# Altium integrated library TI Amplifiers and Linear Operational Amplifier Precision Amplifier Part One.IntLib: 2299 symbols (part 1 of 85)
Pins are listed as number, name and electrical type; pins without a type are passive.

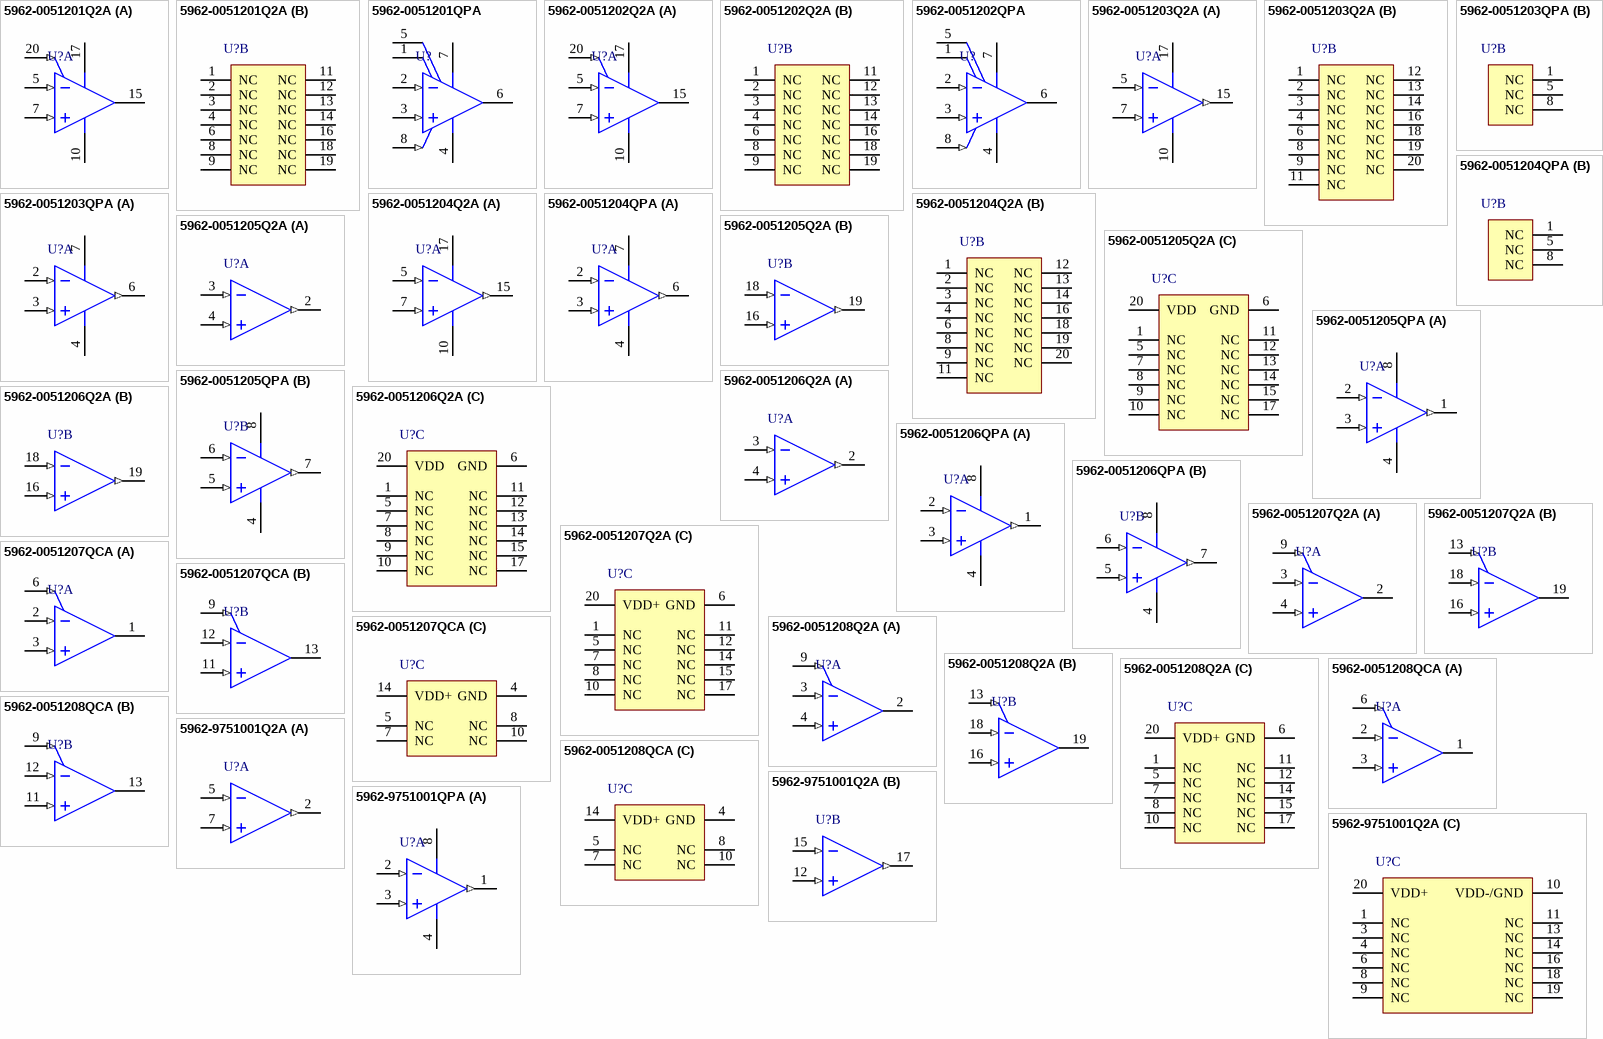
[diagram p0: symbols 5962-0051201Q2A to 5962-9751001QPA]

## 5962-0051201Q2A
designator U?
Single, Low Power, Rail-to-Rail Input / Output Operational Amplifier with Shutdown, 2.7 to 6 V, -55 to 125 degC, 20-pin LCC (FK20); Manufacturer: Texas Instruments; PartNumber: 5962-0051201Q2A; CMRR(Min)(dB): 66; IIB(Max)(pA): 14000; Iq per channel(Max)(mA): 0.575; Number of Channels: 1; Offset Drift(Typ)(uV/C): 2; Slew Rate(Typ)(V/us): 1.6; Sub Family: High Output Current Amplifier (>=50mA), Low Supply Voltage Amplifier (<=2.7V), Precision Amplifier; Total Supply Voltage(Max)(+5V is 5, +/-5V is 10): 6; Total Supply Voltage(Min)(+5V is 5, +/-5V is 10): 2.7; Vn at 1kHz(Typ)(nV/rtHz): 11; DatasheetVersion: SLOS220J; PackageVersion: 4040140/D, 01/2011; PackageReference: FK20; PackageDescription: 20-Pin Ceramic, Metal Chip Carrier, Body 8.89 x 8.89 mm, Pitch 1.27 mm; Vio (25C)(Max)(mV): 2; Mounting Technology: Surface Mount; Code_JEDEC: MS-004; ComponentLink1Description: Manufacturer URL; ComponentLink1URL: http://www.ti.com/; ComponentLink2Description: Datasheet; ComponentLink2URL: http://www.ti.com/general/docs/lit/getliterature.tsp?genericPartNumber=TLV2460M&fileType=pdf; ComponentLink3Description: Package Specification; ComponentLink3URL: http://www.ti.com/litv/pdf/mlcc006d
footprint TI-FK20_N (Leadless Chip Carrier, 20-Leads, Body 8.9x8.9mm, Pitch 1.27mm, IPC Medium Density)
footprint TI-FK20_L (Leadless Chip Carrier, 20-Leads, Body 8.9x8.9mm, Pitch 1.27mm, IPC High Density)
footprint TI-FK20_M (Leadless Chip Carrier, 20-Leads, Body 8.9x8.9mm, Pitch 1.27mm, IPC Low Density)
part A pins: 5 IN- (in), 7 IN+ (in), 10 GND (power), 15 OUT (hiz), 17 VDD (power), 20 ~{SHDN} (in)
part B pins: 1 NC, 2 NC, 3 NC, 4 NC, 6 NC, 8 NC, 9 NC, 11 NC, 12 NC, 13 NC, 14 NC, 16 NC, 18 NC, 19 NC

## 5962-0051201QPA
designator U?
Single, Low Power, Rail-to-Rail Input / Output Operational Amplifier with Shutdown, 2.7 to 6 V, -55 to 125 degC, 8-pin DIP (JG8); Manufacturer: Texas Instruments; PartNumber: 5962-0051201QPA; CMRR(Min)(dB): 66; IIB(Max)(pA): 14000; Iq per channel(Max)(mA): 0.575; Number of Channels: 1; Offset Drift(Typ)(uV/C): 2; Slew Rate(Typ)(V/us): 1.6; Sub Family: High Output Current Amplifier (>=50mA), Low Supply Voltage Amplifier (<=2.7V), Precision Amplifier; Total Supply Voltage(Max)(+5V is 5, +/-5V is 10): 6; Total Supply Voltage(Min)(+5V is 5, +/-5V is 10): 2.7; Vn at 1kHz(Typ)(nV/rtHz): 11; DatasheetVersion: SLOS220J; PackageVersion: 4040107/C, 08/1996; PackageReference: JG8; PackageDescription: 8-Pin Ceramic, Glass In-Line, Body 9.58 x 6.665 mm, Pitch 2.54 mm; Vio (25C)(Max)(mV): 2; Mounting Technology: Through Hole; ComponentLink1Description: Manufacturer URL; ComponentLink1URL: http://www.ti.com/; ComponentLink2Description: Datasheet; ComponentLink2URL: http://www.ti.com/general/docs/lit/getliterature.tsp?genericPartNumber=TLV2460M&fileType=pdf; ComponentLink3Description: Package Specification; ComponentLink3URL: http://www.ti.com/litv/pdf/mcer001a
footprint TI-JG8 (DIP, 8-Leads, Body 10.15x7.1mm, Pitch 2.54mm)
pins: 1 NC, 2 IN- (in), 3 IN+ (in), 4 GND (power), 5 NC, 6 OUT (hiz), 7 VDD (power), 8 ~{SHDN} (in)

## 5962-0051202Q2A
designator U?
Single, Low Power, Rail-to-Rail Input / Output Operational Amplifier with Shutdown, 2.7 to 6 V, -55 to 125 degC, 20-pin LCC (FK20); Manufacturer: Texas Instruments; PartNumber: 5962-0051202Q2A; CMRR(Min)(dB): 66; IIB(Max)(pA): 14000; Iq per channel(Max)(mA): 0.575; Number of Channels: 1; Offset Drift(Typ)(uV/C): 2; Slew Rate(Typ)(V/us): 1.6; Sub Family: High Output Current Amplifier (>=50mA), Low Supply Voltage Amplifier (<=2.7V), Precision Amplifier; Total Supply Voltage(Max)(+5V is 5, +/-5V is 10): 6; Total Supply Voltage(Min)(+5V is 5, +/-5V is 10): 2.7; Vio (25C)(Max)(mV): 1.5; Vn at 1kHz(Typ)(nV/rtHz): 11; DatasheetVersion: SLOS220J; PackageVersion: 4040140/D, 01/2011; PackageReference: FK20; PackageDescription: 20-Pin Ceramic, Metal Chip Carrier, Body 8.89 x 8.89 mm, Pitch 1.27 mm; Mounting Technology: Surface Mount; Code_JEDEC: MS-004; ComponentLink1Description: Manufacturer URL; ComponentLink1URL: http://www.ti.com/; ComponentLink2Description: Datasheet; ComponentLink2URL: http://www.ti.com/general/docs/lit/getliterature.tsp?genericPartNumber=TLV2460AM&fileType=pdf; ComponentLink3Description: Package Specification; ComponentLink3URL: http://www.ti.com/litv/pdf/mlcc006d
footprint TI-FK20_N (Leadless Chip Carrier, 20-Leads, Body 8.9x8.9mm, Pitch 1.27mm, IPC Medium Density)
footprint TI-FK20_L (Leadless Chip Carrier, 20-Leads, Body 8.9x8.9mm, Pitch 1.27mm, IPC High Density)
footprint TI-FK20_M (Leadless Chip Carrier, 20-Leads, Body 8.9x8.9mm, Pitch 1.27mm, IPC Low Density)
part A pins: 5 IN- (in), 7 IN+ (in), 10 GND (power), 15 OUT (hiz), 17 VDD (power), 20 ~{SHDN} (in)
part B pins: 1 NC, 2 NC, 3 NC, 4 NC, 6 NC, 8 NC, 9 NC, 11 NC, 12 NC, 13 NC, 14 NC, 16 NC, 18 NC, 19 NC

## 5962-0051202QPA
designator U?
Single, Low Power, Rail-to-Rail Input / Output Operational Amplifier with Shutdown, 2.7 to 6 V, -55 to 125 degC, 8-pin DIP (JG8); Manufacturer: Texas Instruments; PartNumber: 5962-0051202QPA; CMRR(Min)(dB): 66; IIB(Max)(pA): 14000; Iq per channel(Max)(mA): 0.575; Number of Channels: 1; Offset Drift(Typ)(uV/C): 2; Slew Rate(Typ)(V/us): 1.6; Sub Family: High Output Current Amplifier (>=50mA), Low Supply Voltage Amplifier (<=2.7V), Precision Amplifier; Total Supply Voltage(Max)(+5V is 5, +/-5V is 10): 6; Total Supply Voltage(Min)(+5V is 5, +/-5V is 10): 2.7; Vio (25C)(Max)(mV): 1.5; Vn at 1kHz(Typ)(nV/rtHz): 11; DatasheetVersion: SLOS220J; PackageVersion: 4040107/C, 08/1996; PackageReference: JG8; PackageDescription: 8-Pin Ceramic, Glass In-Line, Body 9.58 x 6.665 mm, Pitch 2.54 mm; Mounting Technology: Through Hole; ComponentLink1Description: Manufacturer URL; ComponentLink1URL: http://www.ti.com/; ComponentLink2Description: Datasheet; ComponentLink2URL: http://www.ti.com/general/docs/lit/getliterature.tsp?genericPartNumber=TLV2460AM&fileType=pdf; ComponentLink3Description: Package Specification; ComponentLink3URL: http://www.ti.com/litv/pdf/mcer001a
footprint TI-JG8 (DIP, 8-Leads, Body 10.15x7.1mm, Pitch 2.54mm)
pins: 1 NC, 2 IN- (in), 3 IN+ (in), 4 GND (power), 5 NC, 6 OUT (hiz), 7 VDD (power), 8 ~{SHDN} (in)

## 5962-0051203Q2A
designator U?
Single, Low Power, Rail-to-Rail Input / Output Operational Amplifier, 2.7 to 6 V, -55 to 125 degC, 20-pin LCC (FK20); Manufacturer: Texas Instruments; PartNumber: 5962-0051203Q2A; CMRR(Min)(dB): 66; IIB(Max)(pA): 14000; Iq per channel(Max)(mA): 0.575; Number of Channels: 1; Offset Drift(Typ)(uV/C): 2; Slew Rate(Typ)(V/us): 1.6; Sub Family: High Output Current Amplifier (>=50mA), Low Supply Voltage Amplifier (<=2.7V), Precision Amplifier; Total Supply Voltage(Max)(+5V is 5, +/-5V is 10): 6; Total Supply Voltage(Min)(+5V is 5, +/-5V is 10): 2.7; Vn at 1kHz(Typ)(nV/rtHz): 11; DatasheetVersion: SLOS220J; PackageVersion: 4040140/D, 01/2011; PackageReference: FK20; PackageDescription: 20-Pin Ceramic, Metal Chip Carrier, Body 8.89 x 8.89 mm, Pitch 1.27 mm; Vio (25C)(Max)(mV): 2; Mounting Technology: Surface Mount; Code_JEDEC: MS-004; ComponentLink1Description: Manufacturer URL; ComponentLink1URL: http://www.ti.com/; ComponentLink2Description: Datasheet; ComponentLink2URL: http://www.ti.com/general/docs/lit/getliterature.tsp?genericPartNumber=TLV2461M&fileType=pdf; ComponentLink3Description: Package Specification; ComponentLink3URL: http://www.ti.com/litv/pdf/mlcc006d
footprint TI-FK20_N (Leadless Chip Carrier, 20-Leads, Body 8.9x8.9mm, Pitch 1.27mm, IPC Medium Density)
footprint TI-FK20_L (Leadless Chip Carrier, 20-Leads, Body 8.9x8.9mm, Pitch 1.27mm, IPC High Density)
footprint TI-FK20_M (Leadless Chip Carrier, 20-Leads, Body 8.9x8.9mm, Pitch 1.27mm, IPC Low Density)
part A pins: 5 IN- (in), 7 IN+ (in), 10 GND (power), 15 OUT (out), 17 VDD (power)
part B pins: 1 NC, 2 NC, 3 NC, 4 NC, 6 NC, 8 NC, 9 NC, 11 NC, 12 NC, 13 NC, 14 NC, 16 NC, 18 NC, 19 NC, 20 NC

## 5962-0051203QPA
designator U?
Single, Low Power, Rail-to-Rail Input / Output Operational Amplifier, 2.7 to 6 V, -55 to 125 degC, 8-pin DIP (JG8); Manufacturer: Texas Instruments; PartNumber: 5962-0051203QPA; CMRR(Min)(dB): 66; IIB(Max)(pA): 14000; Iq per channel(Max)(mA): 0.575; Number of Channels: 1; Offset Drift(Typ)(uV/C): 2; Slew Rate(Typ)(V/us): 1.6; Sub Family: High Output Current Amplifier (>=50mA), Low Supply Voltage Amplifier (<=2.7V), Precision Amplifier; Total Supply Voltage(Max)(+5V is 5, +/-5V is 10): 6; Total Supply Voltage(Min)(+5V is 5, +/-5V is 10): 2.7; Vn at 1kHz(Typ)(nV/rtHz): 11; DatasheetVersion: SLOS220J; PackageVersion: 4040107/C, 08/1996; PackageReference: JG8; PackageDescription: 8-Pin Ceramic, Glass In-Line, Body 9.58 x 6.665 mm, Pitch 2.54 mm; Vio (25C)(Max)(mV): 2; Mounting Technology: Through Hole; ComponentLink1Description: Manufacturer URL; ComponentLink1URL: http://www.ti.com/; ComponentLink2Description: Datasheet; ComponentLink2URL: http://www.ti.com/general/docs/lit/getliterature.tsp?genericPartNumber=TLV2461M&fileType=pdf; ComponentLink3Description: Package Specification; ComponentLink3URL: http://www.ti.com/litv/pdf/mcer001a
footprint TI-JG8 (DIP, 8-Leads, Body 10.15x7.1mm, Pitch 2.54mm)
part A pins: 2 IN- (in), 3 IN+ (in), 4 GND (power), 6 OUT (out), 7 VDD+ (power)
part B pins: 1 NC, 5 NC, 8 NC

## 5962-0051204Q2A
designator U?
Single, Low Power, Rail-to-Rail Input / Output Operational Amplifier, 2.7 to 6 V, -55 to 125 degC, 20-pin LCC (FK20); Manufacturer: Texas Instruments; PartNumber: 5962-0051204Q2A; CMRR(Min)(dB): 66; IIB(Max)(pA): 14000; Iq per channel(Max)(mA): 0.575; Number of Channels: 1; Offset Drift(Typ)(uV/C): 2; Slew Rate(Typ)(V/us): 1.6; Sub Family: High Output Current Amplifier (>=50mA), Low Supply Voltage Amplifier (<=2.7V), Precision Amplifier; Total Supply Voltage(Max)(+5V is 5, +/-5V is 10): 6; Total Supply Voltage(Min)(+5V is 5, +/-5V is 10): 2.7; Vio (25C)(Max)(mV): 1.5; Vn at 1kHz(Typ)(nV/rtHz): 11; DatasheetVersion: SLOS220J; PackageVersion: 4040140/D, 01/2011; PackageReference: FK20; PackageDescription: 20-Pin Ceramic, Metal Chip Carrier, Body 8.89 x 8.89 mm, Pitch 1.27 mm; Mounting Technology: Surface Mount; Code_JEDEC: MS-004; ComponentLink1Description: Manufacturer URL; ComponentLink1URL: http://www.ti.com/; ComponentLink2Description: Datasheet; ComponentLink2URL: http://www.ti.com/general/docs/lit/getliterature.tsp?genericPartNumber=TLV2461AM&fileType=pdf; ComponentLink3Description: Package Specification; ComponentLink3URL: http://www.ti.com/litv/pdf/mlcc006d
footprint TI-FK20_N (Leadless Chip Carrier, 20-Leads, Body 8.9x8.9mm, Pitch 1.27mm, IPC Medium Density)
footprint TI-FK20_L (Leadless Chip Carrier, 20-Leads, Body 8.9x8.9mm, Pitch 1.27mm, IPC High Density)
footprint TI-FK20_M (Leadless Chip Carrier, 20-Leads, Body 8.9x8.9mm, Pitch 1.27mm, IPC Low Density)
part A pins: 5 IN- (in), 7 IN+ (in), 10 GND (power), 15 OUT (out), 17 VDD (power)
part B pins: 1 NC, 2 NC, 3 NC, 4 NC, 6 NC, 8 NC, 9 NC, 11 NC, 12 NC, 13 NC, 14 NC, 16 NC, 18 NC, 19 NC, 20 NC

## 5962-0051204QPA
designator U?
Single, Low Power, Rail-to-Rail Input / Output Operational Amplifier, 2.7 to 6 V, -55 to 125 degC, 8-pin DIP (JG8); Manufacturer: Texas Instruments; PartNumber: 5962-0051204QPA; CMRR(Min)(dB): 66; IIB(Max)(pA): 14000; Iq per channel(Max)(mA): 0.575; Number of Channels: 1; Offset Drift(Typ)(uV/C): 2; Slew Rate(Typ)(V/us): 1.6; Sub Family: High Output Current Amplifier (>=50mA), Low Supply Voltage Amplifier (<=2.7V), Precision Amplifier; Total Supply Voltage(Max)(+5V is 5, +/-5V is 10): 6; Total Supply Voltage(Min)(+5V is 5, +/-5V is 10): 2.7; Vio (25C)(Max)(mV): 1.5; Vn at 1kHz(Typ)(nV/rtHz): 11; DatasheetVersion: SLOS220J; PackageVersion: 4040107/C, 08/1996; PackageReference: JG8; PackageDescription: 8-Pin Ceramic, Glass In-Line, Body 9.58 x 6.665 mm, Pitch 2.54 mm; Mounting Technology: Through Hole; ComponentLink1Description: Manufacturer URL; ComponentLink1URL: http://www.ti.com/; ComponentLink2Description: Datasheet; ComponentLink2URL: http://www.ti.com/general/docs/lit/getliterature.tsp?genericPartNumber=TLV2461AM&fileType=pdf; ComponentLink3Description: Package Specification; ComponentLink3URL: http://www.ti.com/litv/pdf/mcer001a
footprint TI-JG8 (DIP, 8-Leads, Body 10.15x7.1mm, Pitch 2.54mm)
part A pins: 2 IN- (in), 3 IN+ (in), 4 GND (power), 6 OUT (out), 7 VDD+ (power)
part B pins: 1 NC, 5 NC, 8 NC

## 5962-0051205Q2A
designator U?
Dual Low-Power, Rail-to-Rail Input / Output Operational Amplifier with Shutdown, 2.7 to 6 V, -55 to 125 degC, 20-pin LCC (FK20); Manufacturer: Texas Instruments; PartNumber: 5962-0051205Q2A; CMRR(Min)(dB): 66; IIB(Max)(pA): 14000; Iq per channel(Max)(mA): 0.575; Number of Channels: 2; Slew Rate(Typ)(V/us): 1.6; Sub Family: High Output Current Amplifier (>=50mA), Low Supply Voltage Amplifier (<=2.7V), Precision Amplifier; Total Supply Voltage(Max)(+5V is 5, +/-5V is 10): 6; Total Supply Voltage(Min)(+5V is 5, +/-5V is 10): 2.7; Vn at 1kHz(Typ)(nV/rtHz): 11; DatasheetVersion: SLOS220J; PackageVersion: 4040140/D, 01/2011; PackageReference: FK20; PackageDescription: 20-Pin Ceramic, Metal Chip Carrier, Body 8.89 x 8.89 mm, Pitch 1.27 mm; Offset Drift(Typ)(uV/C): 2; Vio (25C)(Max)(mV): 2; Mounting Technology: Surface Mount; Code_JEDEC: MS-004; ComponentLink1Description: Manufacturer URL; ComponentLink1URL: http://www.ti.com/; ComponentLink2Description: Datasheet; ComponentLink2URL: http://www.ti.com/general/docs/lit/getliterature.tsp?genericPartNumber=TLV2462M&fileType=pdf; ComponentLink3Description: Package Specification; ComponentLink3URL: http://www.ti.com/litv/pdf/mlcc006d
footprint TI-FK20_N (Leadless Chip Carrier, 20-Leads, Body 8.9x8.9mm, Pitch 1.27mm, IPC Medium Density)
footprint TI-FK20_L (Leadless Chip Carrier, 20-Leads, Body 8.9x8.9mm, Pitch 1.27mm, IPC High Density)
footprint TI-FK20_M (Leadless Chip Carrier, 20-Leads, Body 8.9x8.9mm, Pitch 1.27mm, IPC Low Density)
part A pins: 2 OUT1 (out), 3 IN1- (in), 4 IN1+ (in)
part B pins: 16 IN2+ (in), 18 IN2- (in), 19 OUT2 (out)
part C pins: 1 NC, 5 NC, 6 GND (power), 7 NC, 8 NC, 9 NC, 10 NC, 11 NC, 12 NC, 13 NC, 14 NC, 15 NC, 17 NC, 20 VDD (power)

## 5962-0051205QPA
designator U?
Dual Low-Power, Rail-to-Rail Input / Output Operational Amplifier with Shutdown, 2.7 to 6 V, -55 to 125 degC, 8-pin DIP (JG8); Manufacturer: Texas Instruments; PartNumber: 5962-0051205QPA; CMRR(Min)(dB): 66; IIB(Max)(pA): 14000; Iq per channel(Max)(mA): 0.575; Number of Channels: 2; Slew Rate(Typ)(V/us): 1.6; Sub Family: High Output Current Amplifier (>=50mA), Low Supply Voltage Amplifier (<=2.7V), Precision Amplifier; Total Supply Voltage(Max)(+5V is 5, +/-5V is 10): 6; Total Supply Voltage(Min)(+5V is 5, +/-5V is 10): 2.7; Vn at 1kHz(Typ)(nV/rtHz): 11; DatasheetVersion: SLOS220J; PackageVersion: 4040107/C, 08/1996; PackageReference: JG8; PackageDescription: 8-Pin Ceramic, Glass In-Line, Body 9.58 x 6.665 mm, Pitch 2.54 mm; Offset Drift(Typ)(uV/C): 2; Vio (25C)(Max)(mV): 2; Mounting Technology: Through Hole; ComponentLink1Description: Manufacturer URL; ComponentLink1URL: http://www.ti.com/; ComponentLink2Description: Datasheet; ComponentLink2URL: http://www.ti.com/general/docs/lit/getliterature.tsp?genericPartNumber=TLV2462M&fileType=pdf; ComponentLink3Description: Package Specification; ComponentLink3URL: http://www.ti.com/litv/pdf/mcer001a
footprint TI-JG8 (DIP, 8-Leads, Body 10.15x7.1mm, Pitch 2.54mm)
pins on every part: 4 GND (power), 8 VDD+ (power)
part A pins: 1 OUT1 (out), 2 IN1- (in), 3 IN1+ (in)
part B pins: 5 IN2+ (in), 6 IN2- (in), 7 OUT2 (out)

## 5962-0051206Q2A
designator U?
Dual Low-Power, Rail-to-Rail Input / Output Operational Amplifier, 2.7 to 6 V, -55 to 125 degC, 20-pin LCC (FK20); Manufacturer: Texas Instruments; PartNumber: 5962-0051206Q2A; CMRR(Min)(dB): 60; IIB(Max)(pA): 14000; Iq per channel(Max)(mA): 0.575; Number of Channels: 2; Slew Rate(Typ)(V/us): 1.6; Sub Family: High Output Current Amplifier (>=50mA), Low Supply Voltage Amplifier (<=2.7V), Precision Amplifier; Total Supply Voltage(Max)(+5V is 5, +/-5V is 10): 6; Total Supply Voltage(Min)(+5V is 5, +/-5V is 10): 2.7; Vio (25C)(Max)(mV): 1.5; Vn at 1kHz(Typ)(nV/rtHz): 11; DatasheetVersion: SLOS220J; PackageVersion: 4040140/D, 01/2011; PackageReference: FK20; PackageDescription: 20-Pin Ceramic, Metal Chip Carrier, Body 8.89 x 8.89 mm, Pitch 1.27 mm; Offset Drift(Typ)(uV/C): 2; Mounting Technology: Surface Mount; Code_JEDEC: MS-004; ComponentLink1Description: Manufacturer URL; ComponentLink1URL: http://www.ti.com/; ComponentLink2Description: Datasheet; ComponentLink2URL: http://www.ti.com/general/docs/lit/getliterature.tsp?genericPartNumber=TLV2462AM&fileType=pdf; ComponentLink3Description: Package Specification; ComponentLink3URL: http://www.ti.com/litv/pdf/mlcc006d
footprint TI-FK20_N (Leadless Chip Carrier, 20-Leads, Body 8.9x8.9mm, Pitch 1.27mm, IPC Medium Density)
footprint TI-FK20_L (Leadless Chip Carrier, 20-Leads, Body 8.9x8.9mm, Pitch 1.27mm, IPC High Density)
footprint TI-FK20_M (Leadless Chip Carrier, 20-Leads, Body 8.9x8.9mm, Pitch 1.27mm, IPC Low Density)
part A pins: 2 OUT1 (out), 3 IN1- (in), 4 IN1+ (in)
part B pins: 16 IN2+ (in), 18 IN2- (in), 19 OUT2 (out)
part C pins: 1 NC, 5 NC, 6 GND (power), 7 NC, 8 NC, 9 NC, 10 NC, 11 NC, 12 NC, 13 NC, 14 NC, 15 NC, 17 NC, 20 VDD (power)

## 5962-0051206QPA
designator U?
Dual Low-Power, Rail-to-Rail Input / Output Operational Amplifier, 2.7 to 6 V, -55 to 125 degC, 8-pin DIP (JG8); Manufacturer: Texas Instruments; PartNumber: 5962-0051206QPA; CMRR(Min)(dB): 60; IIB(Max)(pA): 14000; Iq per channel(Max)(mA): 0.575; Number of Channels: 2; Slew Rate(Typ)(V/us): 1.6; Sub Family: High Output Current Amplifier (>=50mA), Low Supply Voltage Amplifier (<=2.7V), Precision Amplifier; Total Supply Voltage(Max)(+5V is 5, +/-5V is 10): 6; Total Supply Voltage(Min)(+5V is 5, +/-5V is 10): 2.7; Vio (25C)(Max)(mV): 1.5; Vn at 1kHz(Typ)(nV/rtHz): 11; DatasheetVersion: SLOS220J; PackageVersion: 4040107/C, 08/1996; PackageReference: JG8; PackageDescription: 8-Pin Ceramic, Glass In-Line, Body 9.58 x 6.665 mm, Pitch 2.54 mm; Offset Drift(Typ)(uV/C): 2; Mounting Technology: Through Hole; ComponentLink1Description: Manufacturer URL; ComponentLink1URL: http://www.ti.com/; ComponentLink2Description: Datasheet; ComponentLink2URL: http://www.ti.com/general/docs/lit/getliterature.tsp?genericPartNumber=TLV2462AM&fileType=pdf; ComponentLink3Description: Package Specification; ComponentLink3URL: http://www.ti.com/litv/pdf/mcer001a
footprint TI-JG8 (DIP, 8-Leads, Body 10.15x7.1mm, Pitch 2.54mm)
pins on every part: 4 GND (power), 8 VDD+ (power)
part A pins: 1 OUT1 (out), 2 IN1- (in), 3 IN1+ (in)
part B pins: 5 IN2+ (in), 6 IN2- (in), 7 OUT2 (out)

## 5962-0051207Q2A
designator U?
Dual Low-Power, Rail-to-Rail Input / Output Operational Amplifier with Shutdown, 2.7 to 6 V, -55 to 125 degC, 20-pin LCC (FK20); Manufacturer: Texas Instruments; PartNumber: 5962-0051207Q2A; CMRR(Min)(dB): 66; IIB(Max)(pA): 14000; Iq per channel(Max)(mA): 0.575; Number of Channels: 2; Slew Rate(Typ)(V/us): 1.6; Sub Family: High Output Current Amplifier (>=50mA), Low Supply Voltage Amplifier (<=2.7V), Precision Amplifier; Total Supply Voltage(Max)(+5V is 5, +/-5V is 10): 6; Total Supply Voltage(Min)(+5V is 5, +/-5V is 10): 2.7; Vn at 1kHz(Typ)(nV/rtHz): 11; DatasheetVersion: SLOS220J; PackageVersion: 4040140/D, 01/2011; PackageReference: FK20; PackageDescription: 20-Pin Ceramic, Metal Chip Carrier, Body 8.89 x 8.89 mm, Pitch 1.27 mm; Offset Drift(Typ)(uV/C): 2; Vio (25C)(Max)(mV): 2; Mounting Technology: Surface Mount; Code_JEDEC: MS-004; ComponentLink1Description: Manufacturer URL; ComponentLink1URL: http://www.ti.com/; ComponentLink2Description: Datasheet; ComponentLink2URL: http://www.ti.com/general/docs/lit/getliterature.tsp?genericPartNumber=TLV2463M&fileType=pdf; ComponentLink3Description: Package Specification; ComponentLink3URL: http://www.ti.com/litv/pdf/mlcc006d
footprint TI-FK20_N (Leadless Chip Carrier, 20-Leads, Body 8.9x8.9mm, Pitch 1.27mm, IPC Medium Density)
footprint TI-FK20_L (Leadless Chip Carrier, 20-Leads, Body 8.9x8.9mm, Pitch 1.27mm, IPC High Density)
footprint TI-FK20_M (Leadless Chip Carrier, 20-Leads, Body 8.9x8.9mm, Pitch 1.27mm, IPC Low Density)
part A pins: 2 OUT1 (hiz), 3 IN1- (in), 4 IN1+ (in), 9 ~{SHDN1} (in)
part B pins: 13 ~{SHDN2} (in), 16 IN2+ (in), 18 IN2- (in), 19 OUT2 (hiz)
part C pins: 1 NC, 5 NC, 6 GND (power), 7 NC, 8 NC, 10 NC, 11 NC, 12 NC, 14 NC, 15 NC, 17 NC, 20 VDD+ (power)

## 5962-0051207QCA
designator U?
Dual Low-Power, Rail-to-Rail Input / Output Operational Amplifier with Shutdown, 2.7 to 6 V, -55 to 125 degC, 14-pin DIP (J14); Manufacturer: Texas Instruments; PartNumber: 5962-0051207QCA; CMRR(Min)(dB): 66; IIB(Max)(pA): 14000; Iq per channel(Max)(mA): 0.575; Number of Channels: 2; Slew Rate(Typ)(V/us): 1.6; Sub Family: High Output Current Amplifier (>=50mA), Low Supply Voltage Amplifier (<=2.7V), Precision Amplifier; Total Supply Voltage(Max)(+5V is 5, +/-5V is 10): 6; Total Supply Voltage(Min)(+5V is 5, +/-5V is 10): 2.7; Vn at 1kHz(Typ)(nV/rtHz): 11; DatasheetVersion: SLOS220J; PackageVersion: 4040083/F, 03/2003; PackageReference: J14; PackageDescription: 14-Pin Ceramic, Glass In-Line, Row Spacing 7.62 mm, Pitch 2.54 mm; Offset Drift(Typ)(uV/C): 2; Vio (25C)(Max)(mV): 2; Mounting Technology: Through Hole; ComponentLink1Description: Manufacturer URL; ComponentLink1URL: http://www.ti.com/; ComponentLink2Description: Datasheet; ComponentLink2URL: http://www.ti.com/general/docs/lit/getliterature.tsp?genericPartNumber=TLV2463M&fileType=pdf; ComponentLink3Description: Package Specification; ComponentLink3URL: http://www.ti.com/litv/pdf/mcer002d
footprint TI-J14 (DIP, 14-Leads, Body 19.94x6.92mm, Row Spacing 7.62 mm, Pitch 2.54mm)
part A pins: 1 OUT1 (hiz), 2 IN1- (in), 3 IN1+ (in), 6 ~{SHDN1} (in)
part B pins: 9 ~{SHDN2} (in), 11 IN2+ (in), 12 IN2- (in), 13 OUT2 (hiz)
part C pins: 4 GND (power), 5 NC, 7 NC, 8 NC, 10 NC, 14 VDD+ (power)

## 5962-0051208Q2A
designator U?
Dual Low-Power, Rail-to-Rail Input / Output Operational Amplifier, 2.7 to 6 V, -55 to 125 degC, 20-pin LCC (FK20); Manufacturer: Texas Instruments; PartNumber: 5962-0051208Q2A; CMRR(Min)(dB): 66; IIB(Max)(pA): 14000; Iq per channel(Max)(mA): 0.575; Number of Channels: 2; Slew Rate(Typ)(V/us): 1.6; Sub Family: High Output Current Amplifier (>=50mA), Low Supply Voltage Amplifier (<=2.7V), Precision Amplifier; Total Supply Voltage(Max)(+5V is 5, +/-5V is 10): 6; Total Supply Voltage(Min)(+5V is 5, +/-5V is 10): 2.7; Vio (25C)(Max)(mV): 1.5; Vn at 1kHz(Typ)(nV/rtHz): 11; DatasheetVersion: SLOS220J; PackageVersion: 4040140/D, 01/2011; PackageReference: FK20; PackageDescription: 20-Pin Ceramic, Metal Chip Carrier, Body 8.89 x 8.89 mm, Pitch 1.27 mm; Offset Drift(Typ)(uV/C): 2; Mounting Technology: Surface Mount; Code_JEDEC: MS-004; ComponentLink1Description: Manufacturer URL; ComponentLink1URL: http://www.ti.com/; ComponentLink2Description: Datasheet; ComponentLink2URL: http://www.ti.com/general/docs/lit/getliterature.tsp?genericPartNumber=TLV2463AM&fileType=pdf; ComponentLink3Description: Package Specification; ComponentLink3URL: http://www.ti.com/litv/pdf/mlcc006d
footprint TI-FK20_N (Leadless Chip Carrier, 20-Leads, Body 8.9x8.9mm, Pitch 1.27mm, IPC Medium Density)
footprint TI-FK20_L (Leadless Chip Carrier, 20-Leads, Body 8.9x8.9mm, Pitch 1.27mm, IPC High Density)
footprint TI-FK20_M (Leadless Chip Carrier, 20-Leads, Body 8.9x8.9mm, Pitch 1.27mm, IPC Low Density)
part A pins: 2 OUT1 (hiz), 3 IN1- (in), 4 IN1+ (in), 9 ~{SHDN1} (in)
part B pins: 13 ~{SHDN2} (in), 16 IN2+ (in), 18 IN2- (in), 19 OUT2 (hiz)
part C pins: 1 NC, 5 NC, 6 GND (power), 7 NC, 8 NC, 10 NC, 11 NC, 12 NC, 14 NC, 15 NC, 17 NC, 20 VDD+ (power)

## 5962-0051208QCA
designator U?
Dual Low-Power, Rail-to-Rail Input / Output Operational Amplifier, 2.7 to 6 V, -55 to 125 degC, 14-pin DIP (J14); Manufacturer: Texas Instruments; PartNumber: 5962-0051208QCA; CMRR(Min)(dB): 66; IIB(Max)(pA): 14000; Iq per channel(Max)(mA): 0.575; Number of Channels: 2; Slew Rate(Typ)(V/us): 1.6; Sub Family: High Output Current Amplifier (>=50mA), Low Supply Voltage Amplifier (<=2.7V), Precision Amplifier; Total Supply Voltage(Max)(+5V is 5, +/-5V is 10): 6; Total Supply Voltage(Min)(+5V is 5, +/-5V is 10): 2.7; Vio (25C)(Max)(mV): 1.5; Vn at 1kHz(Typ)(nV/rtHz): 11; DatasheetVersion: SLOS220J; PackageVersion: 4040083/F, 03/2003; PackageReference: J14; PackageDescription: 14-Pin Ceramic, Glass In-Line, Row Spacing 7.62 mm, Pitch 2.54 mm; Offset Drift(Typ)(uV/C): 2; Mounting Technology: Through Hole; ComponentLink1Description: Manufacturer URL; ComponentLink1URL: http://www.ti.com/; ComponentLink2Description: Datasheet; ComponentLink2URL: http://www.ti.com/general/docs/lit/getliterature.tsp?genericPartNumber=TLV2463AM&fileType=pdf; ComponentLink3Description: Package Specification; ComponentLink3URL: http://www.ti.com/litv/pdf/mcer002d
footprint TI-J14 (DIP, 14-Leads, Body 19.94x6.92mm, Row Spacing 7.62 mm, Pitch 2.54mm)
part A pins: 1 OUT1 (hiz), 2 IN1- (in), 3 IN1+ (in), 6 ~{SHDN1} (in)
part B pins: 9 ~{SHDN2} (in), 11 IN2+ (in), 12 IN2- (in), 13 OUT2 (hiz)
part C pins: 4 GND (power), 5 NC, 7 NC, 8 NC, 10 NC, 14 VDD+ (power)

## 5962-9751001Q2A
designator U?
Advanced LinCMOS(TM) Rail-to-Rail Output Wide-Input-Voltage Dual Operational Amplifier, 2.7 to 10 V, -55 to 125 degC, 20-pin LCC (FK20); Manufacturer: Texas Instruments; PartNumber: 5962-9751001Q2A; CMRR(Min)(dB): 70; IIB(Max)(pA): 60; Iq per channel(Max)(mA): 0.125; Number of Channels: 2; Slew Rate(Typ)(V/us): 0.25; Sub Family: Low Power Amp (<=500uA), Low Supply Voltage Amplifier (<=2.7V), Precision Amplifier; Total Supply Voltage(Max)(+5V is 5, +/-5V is 10): 10; Total Supply Voltage(Min)(+5V is 5, +/-5V is 10): 2.7; Vn at 1kHz(Typ)(nV/rtHz): 22; DatasheetVersion: SLOS168F; PackageVersion: 4040140/D, 01/2011; PackageReference: FK20; PackageDescription: 20-Pin Ceramic, Metal Chip Carrier, Body 8.89 x 8.89 mm, Pitch 1.27 mm; Offset Drift(Typ)(uV/C): 2; Vio (25C)(Max)(mV): 2; Mounting Technology: Surface Mount; Code_JEDEC: MS-004; ComponentLink1Description: Manufacturer URL; ComponentLink1URL: http://www.ti.com/; ComponentLink2Description: Datasheet; ComponentLink2URL: http://www.ti.com/general/docs/lit/getliterature.tsp?genericPartNumber=TLV2432M&fileType=pdf; ComponentLink3Description: Package Specification; ComponentLink3URL: http://www.ti.com/litv/pdf/mlcc006d
footprint TI-FK20_N (Leadless Chip Carrier, 20-Leads, Body 8.9x8.9mm, Pitch 1.27mm, IPC Medium Density)
footprint TI-FK20_L (Leadless Chip Carrier, 20-Leads, Body 8.9x8.9mm, Pitch 1.27mm, IPC High Density)
footprint TI-FK20_M (Leadless Chip Carrier, 20-Leads, Body 8.9x8.9mm, Pitch 1.27mm, IPC Low Density)
part A pins: 2 OUT1 (out), 5 IN1- (in), 7 IN1+ (in)
part B pins: 12 IN2+ (in), 15 IN2- (in), 17 OUT2 (out)
part C pins: 1 NC, 3 NC, 4 NC, 6 NC, 8 NC, 9 NC, 10 VDD-/GND (power), 11 NC, 13 NC, 14 NC, 16 NC, 18 NC, 19 NC, 20 VDD+ (power)

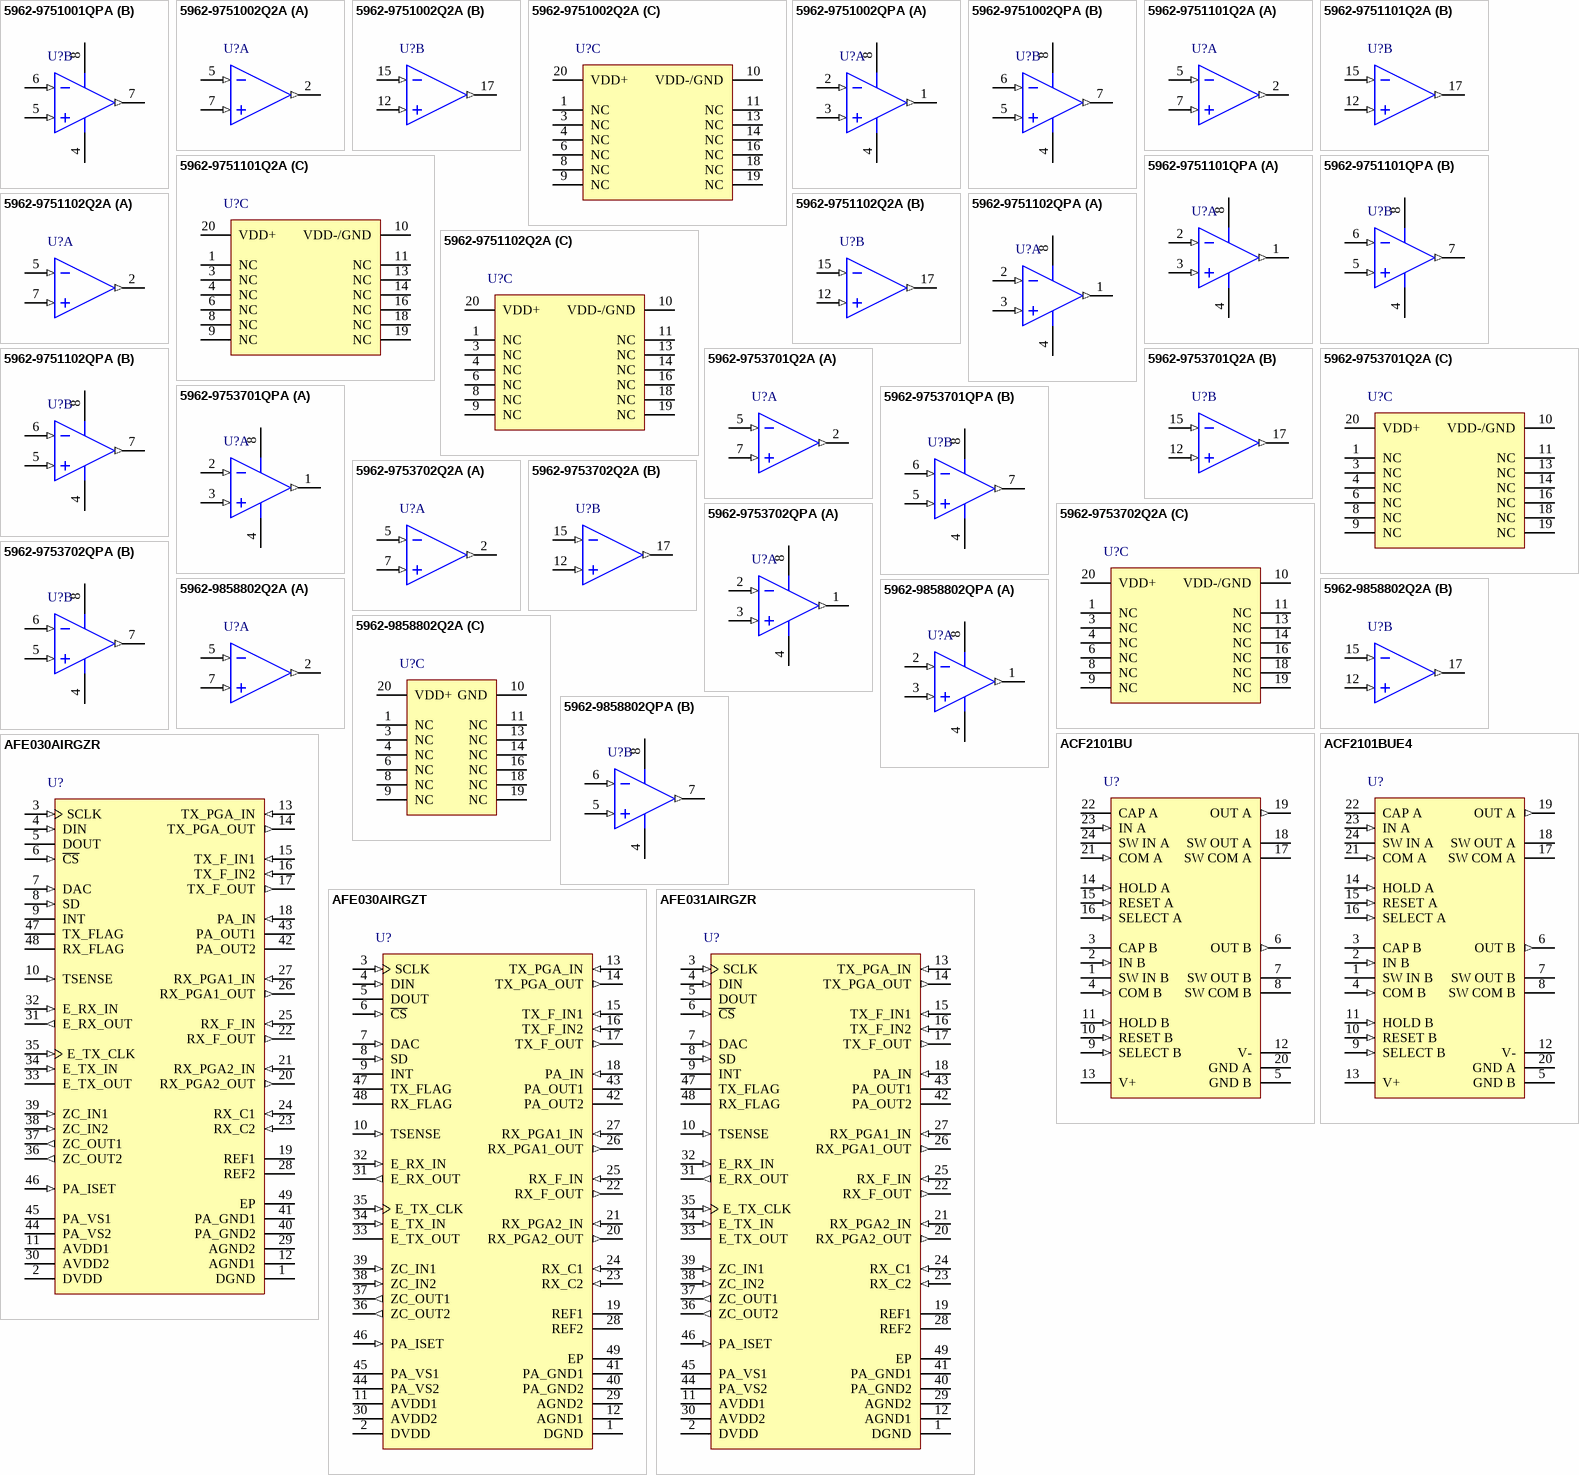
[diagram p1: symbols 5962-9751001QPA to AFE031AIRGZR]

## 5962-9751001QPA
designator U?
Advanced LinCMOS(TM) Rail-to-Rail Output Wide-Input-Voltage Dual Operational Amplifier, 2.7 to 10 V, -55 to 125 degC, 8-pin DIP (JG8); Manufacturer: Texas Instruments; PartNumber: 5962-9751001QPA; CMRR(Min)(dB): 70; IIB(Max)(pA): 60; Iq per channel(Max)(mA): 0.125; Number of Channels: 2; Slew Rate(Typ)(V/us): 0.25; Sub Family: Low Power Amp (<=500uA), Low Supply Voltage Amplifier (<=2.7V), Precision Amplifier; Total Supply Voltage(Max)(+5V is 5, +/-5V is 10): 10; Total Supply Voltage(Min)(+5V is 5, +/-5V is 10): 2.7; Vn at 1kHz(Typ)(nV/rtHz): 22; DatasheetVersion: SLOS168F; PackageVersion: 4040107/C, 08/1996; PackageReference: JG8; PackageDescription: 8-Pin Ceramic, Glass In-Line, Body 9.58 x 6.665 mm, Pitch 2.54 mm; Offset Drift(Typ)(uV/C): 2; Vio (25C)(Max)(mV): 2; Mounting Technology: Through Hole; ComponentLink1Description: Manufacturer URL; ComponentLink1URL: http://www.ti.com/; ComponentLink2Description: Datasheet; ComponentLink2URL: http://www.ti.com/general/docs/lit/getliterature.tsp?genericPartNumber=TLV2432M&fileType=pdf; ComponentLink3Description: Package Specification; ComponentLink3URL: http://www.ti.com/litv/pdf/mcer001a
footprint TI-JG8 (DIP, 8-Leads, Body 10.15x7.1mm, Pitch 2.54mm)
pins on every part: 4 VDD-/GND (power), 8 VDD+ (power)
part A pins: 1 OUT1 (out), 2 IN1- (in), 3 IN1+ (in)
part B pins: 5 IN2+ (in), 6 IN2- (in), 7 OUT2 (out)

## 5962-9751002Q2A
designator U?
Advanced LinCMOS(TM) Rail-to-Rail Output Wide-Input-Voltage Dual Operational Amplifier, 2.7 to 10 V, -55 to 125 degC, 20-pin LCC (FK20); Manufacturer: Texas Instruments; PartNumber: 5962-9751002Q2A; CMRR(Min)(dB): 70; IIB(Max)(pA): 60; Iq per channel(Max)(mA): 0.125; Number of Channels: 2; Slew Rate(Typ)(V/us): 0.25; Sub Family: Low Power Amp (<=500uA), Low Supply Voltage Amplifier (<=2.7V), Precision Amplifier; Total Supply Voltage(Max)(+5V is 5, +/-5V is 10): 10; Total Supply Voltage(Min)(+5V is 5, +/-5V is 10): 2.7; Vio (25C)(Max)(mV): 0.95; Vn at 1kHz(Typ)(nV/rtHz): 18; DatasheetVersion: SLOS168F; PackageVersion: 4040140/D, 01/2011; PackageReference: FK20; PackageDescription: 20-Pin Ceramic, Metal Chip Carrier, Body 8.89 x 8.89 mm, Pitch 1.27 mm; Offset Drift(Typ)(uV/C): 2; Mounting Technology: Surface Mount; Code_JEDEC: MS-004; ComponentLink1Description: Manufacturer URL; ComponentLink1URL: http://www.ti.com/; ComponentLink2Description: Datasheet; ComponentLink2URL: http://www.ti.com/general/docs/lit/getliterature.tsp?genericPartNumber=TLV2432AM&fileType=pdf; ComponentLink3Description: Package Specification; ComponentLink3URL: http://www.ti.com/litv/pdf/mlcc006d
footprint TI-FK20_N (Leadless Chip Carrier, 20-Leads, Body 8.9x8.9mm, Pitch 1.27mm, IPC Medium Density)
footprint TI-FK20_L (Leadless Chip Carrier, 20-Leads, Body 8.9x8.9mm, Pitch 1.27mm, IPC High Density)
footprint TI-FK20_M (Leadless Chip Carrier, 20-Leads, Body 8.9x8.9mm, Pitch 1.27mm, IPC Low Density)
part A pins: 2 OUT1 (out), 5 IN1- (in), 7 IN1+ (in)
part B pins: 12 IN2+ (in), 15 IN2- (in), 17 OUT2 (out)
part C pins: 1 NC, 3 NC, 4 NC, 6 NC, 8 NC, 9 NC, 10 VDD-/GND (power), 11 NC, 13 NC, 14 NC, 16 NC, 18 NC, 19 NC, 20 VDD+ (power)

## 5962-9751002QPA
designator U?
Advanced LinCMOS(TM) Rail-to-Rail Output Wide-Input-Voltage Dual Operational Amplifier, 2.7 to 10 V, -55 to 125 degC, 8-pin DIP (JG8); Manufacturer: Texas Instruments; PartNumber: 5962-9751002QPA; CMRR(Min)(dB): 70; IIB(Max)(pA): 60; Iq per channel(Max)(mA): 0.125; Number of Channels: 2; Slew Rate(Typ)(V/us): 0.25; Sub Family: Low Power Amp (<=500uA), Low Supply Voltage Amplifier (<=2.7V), Precision Amplifier; Total Supply Voltage(Max)(+5V is 5, +/-5V is 10): 10; Total Supply Voltage(Min)(+5V is 5, +/-5V is 10): 2.7; Vio (25C)(Max)(mV): 0.95; Vn at 1kHz(Typ)(nV/rtHz): 18; DatasheetVersion: SLOS168F; PackageVersion: 4040107/C, 08/1996; PackageReference: JG8; PackageDescription: 8-Pin Ceramic, Glass In-Line, Body 9.58 x 6.665 mm, Pitch 2.54 mm; Offset Drift(Typ)(uV/C): 2; Mounting Technology: Through Hole; ComponentLink1Description: Manufacturer URL; ComponentLink1URL: http://www.ti.com/; ComponentLink2Description: Datasheet; ComponentLink2URL: http://www.ti.com/general/docs/lit/getliterature.tsp?genericPartNumber=TLV2432AM&fileType=pdf; ComponentLink3Description: Package Specification; ComponentLink3URL: http://www.ti.com/litv/pdf/mcer001a
footprint TI-JG8 (DIP, 8-Leads, Body 10.15x7.1mm, Pitch 2.54mm)
pins on every part: 4 VDD-/GND (power), 8 VDD+ (power)
part A pins: 1 OUT1 (out), 2 IN1- (in), 3 IN1+ (in)
part B pins: 5 IN2+ (in), 6 IN2- (in), 7 OUT2 (out)

## 5962-9751101Q2A
designator U?
Advanced LinCMOS(TM) Rail-to-Rail Output Wide-Input-Voltage Dual Operational Amplifier, 2.7 to 10 V, -55 to 125 degC, 20-pin LCC (FK20); Manufacturer: Texas Instruments; PartNumber: 5962-9751101Q2A; CMRR(Min)(dB): 50; IIB(Max)(pA): 260; Iq per channel(Max)(mA): 1.1; Number of Channels: 2; Slew Rate(Typ)(V/us): 1.3; Sub Family: Low Supply Voltage Amplifier (<=2.7V), Precision Amplifier; Total Supply Voltage(Max)(+5V is 5, +/-5V is 10): 10; Total Supply Voltage(Min)(+5V is 5, +/-5V is 10): 2.7; Vio (25C)(Max)(mV): 0.95; Vn at 1kHz(Typ)(nV/rtHz): 18; DatasheetVersion: SLOS169H; PackageVersion: 4040140/D, 01/2011; PackageReference: FK20; PackageDescription: 20-Pin Ceramic, Metal Chip Carrier, Body 8.89 x 8.89 mm, Pitch 1.27 mm; Offset Drift(Typ)(uV/C): 2; Mounting Technology: Surface Mount; Code_JEDEC: MS-004; ComponentLink1Description: Manufacturer URL; ComponentLink1URL: http://www.ti.com/; ComponentLink2Description: Datasheet; ComponentLink2URL: http://www.ti.com/general/docs/lit/getliterature.tsp?genericPartNumber=TLV2442M&fileType=pdf; ComponentLink3Description: Package Specification; ComponentLink3URL: http://www.ti.com/litv/pdf/mlcc006d
footprint TI-FK20_N (Leadless Chip Carrier, 20-Leads, Body 8.9x8.9mm, Pitch 1.27mm, IPC Medium Density)
footprint TI-FK20_L (Leadless Chip Carrier, 20-Leads, Body 8.9x8.9mm, Pitch 1.27mm, IPC High Density)
footprint TI-FK20_M (Leadless Chip Carrier, 20-Leads, Body 8.9x8.9mm, Pitch 1.27mm, IPC Low Density)
part A pins: 2 OUT1 (out), 5 IN1- (in), 7 IN1+ (in)
part B pins: 12 IN2+ (in), 15 IN2- (in), 17 OUT2 (out)
part C pins: 1 NC, 3 NC, 4 NC, 6 NC, 8 NC, 9 NC, 10 VDD-/GND (power), 11 NC, 13 NC, 14 NC, 16 NC, 18 NC, 19 NC, 20 VDD+ (power)

## 5962-9751101QPA
designator U?
Advanced LinCMOS(TM) Rail-to-Rail Output Wide-Input-Voltage Dual Operational Amplifier, 2.7 to 10 V, -55 to 125 degC, 8-pin DIP (JG8); Manufacturer: Texas Instruments; PartNumber: 5962-9751101QPA; CMRR(Min)(dB): 50; IIB(Max)(pA): 260; Iq per channel(Max)(mA): 1.1; Number of Channels: 2; Slew Rate(Typ)(V/us): 1.3; Sub Family: Low Supply Voltage Amplifier (<=2.7V), Precision Amplifier; Total Supply Voltage(Max)(+5V is 5, +/-5V is 10): 10; Total Supply Voltage(Min)(+5V is 5, +/-5V is 10): 2.7; Vio (25C)(Max)(mV): 0.95; Vn at 1kHz(Typ)(nV/rtHz): 18; DatasheetVersion: SLOS169H; PackageVersion: 4040107/C, 08/1996; PackageReference: JG8; PackageDescription: 8-Pin Ceramic, Glass In-Line, Body 9.58 x 6.665 mm, Pitch 2.54 mm; Offset Drift(Typ)(uV/C): 2; Mounting Technology: Through Hole; ComponentLink1Description: Manufacturer URL; ComponentLink1URL: http://www.ti.com/; ComponentLink2Description: Datasheet; ComponentLink2URL: http://www.ti.com/general/docs/lit/getliterature.tsp?genericPartNumber=TLV2442M&fileType=pdf; ComponentLink3Description: Package Specification; ComponentLink3URL: http://www.ti.com/litv/pdf/mcer001a
footprint TI-JG8 (DIP, 8-Leads, Body 10.15x7.1mm, Pitch 2.54mm)
pins on every part: 4 VDD-/GND (power), 8 VDD+ (power)
part A pins: 1 OUT1 (out), 2 IN1- (in), 3 IN1+ (in)
part B pins: 5 IN2+ (in), 6 IN2- (in), 7 OUT2 (out)

## 5962-9751102Q2A
designator U?
Advanced LinCMOS(TM) Rail-to-Rail Output Wide-Input-Voltage Dual Operational Amplifier, 2.7 to 10 V, -55 to 125 degC, 20-pin LCC (FK20); Manufacturer: Texas Instruments; PartNumber: 5962-9751102Q2A; CMRR(Min)(dB): 65; IIB(Max)(pA): 260; Iq per channel(Max)(mA): 1.1; Number of Channels: 2; Slew Rate(Typ)(V/us): 1.3; Sub Family: Low Supply Voltage Amplifier (<=2.7V), Precision Amplifier; Total Supply Voltage(Max)(+5V is 5, +/-5V is 10): 10; Total Supply Voltage(Min)(+5V is 5, +/-5V is 10): 2.7; Vio (25C)(Max)(mV): 0.95; Vn at 1kHz(Typ)(nV/rtHz): 18; DatasheetVersion: SLOS169H; PackageVersion: 4040140/D, 01/2011; PackageReference: FK20; PackageDescription: 20-Pin Ceramic, Metal Chip Carrier, Body 8.89 x 8.89 mm, Pitch 1.27 mm; Offset Drift(Typ)(uV/C): 2; Mounting Technology: Surface Mount; Code_JEDEC: MS-004; ComponentLink1Description: Manufacturer URL; ComponentLink1URL: http://www.ti.com/; ComponentLink2Description: Datasheet; ComponentLink2URL: http://www.ti.com/general/docs/lit/getliterature.tsp?genericPartNumber=TLV2442AM&fileType=pdf; ComponentLink3Description: Package Specification; ComponentLink3URL: http://www.ti.com/litv/pdf/mlcc006d
footprint TI-FK20_N (Leadless Chip Carrier, 20-Leads, Body 8.9x8.9mm, Pitch 1.27mm, IPC Medium Density)
footprint TI-FK20_L (Leadless Chip Carrier, 20-Leads, Body 8.9x8.9mm, Pitch 1.27mm, IPC High Density)
footprint TI-FK20_M (Leadless Chip Carrier, 20-Leads, Body 8.9x8.9mm, Pitch 1.27mm, IPC Low Density)
part A pins: 2 OUT1 (out), 5 IN1- (in), 7 IN1+ (in)
part B pins: 12 IN2+ (in), 15 IN2- (in), 17 OUT2 (out)
part C pins: 1 NC, 3 NC, 4 NC, 6 NC, 8 NC, 9 NC, 10 VDD-/GND (power), 11 NC, 13 NC, 14 NC, 16 NC, 18 NC, 19 NC, 20 VDD+ (power)

## 5962-9751102QPA
designator U?
Advanced LinCMOS(TM) Rail-to-Rail Output Wide-Input-Voltage Dual Operational Amplifier, 2.7 to 10 V, -55 to 125 degC, 8-pin DIP (JG8); Manufacturer: Texas Instruments; PartNumber: 5962-9751102QPA; CMRR(Min)(dB): 65; IIB(Max)(pA): 260; Iq per channel(Max)(mA): 1.1; Number of Channels: 2; Slew Rate(Typ)(V/us): 1.3; Sub Family: Low Supply Voltage Amplifier (<=2.7V), Precision Amplifier; Total Supply Voltage(Max)(+5V is 5, +/-5V is 10): 10; Total Supply Voltage(Min)(+5V is 5, +/-5V is 10): 2.7; Vio (25C)(Max)(mV): 0.95; Vn at 1kHz(Typ)(nV/rtHz): 18; DatasheetVersion: SLOS169H; PackageVersion: 4040107/C, 08/1996; PackageReference: JG8; PackageDescription: 8-Pin Ceramic, Glass In-Line, Body 9.58 x 6.665 mm, Pitch 2.54 mm; Offset Drift(Typ)(uV/C): 2; Mounting Technology: Through Hole; ComponentLink1Description: Manufacturer URL; ComponentLink1URL: http://www.ti.com/; ComponentLink2Description: Datasheet; ComponentLink2URL: http://www.ti.com/general/docs/lit/getliterature.tsp?genericPartNumber=TLV2442AM&fileType=pdf; ComponentLink3Description: Package Specification; ComponentLink3URL: http://www.ti.com/litv/pdf/mcer001a
footprint TI-JG8 (DIP, 8-Leads, Body 10.15x7.1mm, Pitch 2.54mm)
pins on every part: 4 VDD-/GND (power), 8 VDD+ (power)
part A pins: 1 OUT1 (out), 2 IN1- (in), 3 IN1+ (in)
part B pins: 5 IN2+ (in), 6 IN2- (in), 7 OUT2 (out)

## 5962-9753701Q2A
designator U?
Advanced LinEPIC Self-Calibrating Precision Dual Operational Amplifier, 4 to 6 V, -55 to 125 degC, 20-pin LCC (FK20); Manufacturer: Texas Instruments; PartNumber: 5962-9753701Q2A; CMRR(Min)(dB): 90; IIB(Max)(pA): 60; Iq per channel(Max)(mA): 3.5; Number of Channels: 2; Offset Drift(Typ)(uV/C): 1; Slew Rate(Typ)(V/us): 2.5; Sub Family: Low Offset Voltage Amplifier (<=500uV), Precision Amplifier; Total Supply Voltage(Max)(+5V is 5, +/-5V is 10): 6; Total Supply Voltage(Min)(+5V is 5, +/-5V is 10): 4; Vio (25C)(Max)(mV): 0.1; Vn at 1kHz(Typ)(nV/rtHz): 12; DatasheetVersion: SLOS221B; PackageVersion: 4040140/D, 01/2011; PackageReference: FK20; PackageDescription: 20-Pin Ceramic, Metal Chip Carrier, Body 8.89 x 8.89 mm, Pitch 1.27 mm; Mounting Technology: Surface Mount; Code_JEDEC: MS-004; ComponentLink1Description: Manufacturer URL; ComponentLink1URL: http://www.ti.com/; ComponentLink2Description: Datasheet; ComponentLink2URL: http://www.ti.com/general/docs/lit/getliterature.tsp?genericPartNumber=TLC4502M&fileType=pdf; ComponentLink3Description: Package Specification; ComponentLink3URL: http://www.ti.com/litv/pdf/mlcc006d
footprint TI-FK20_N (Leadless Chip Carrier, 20-Leads, Body 8.9x8.9mm, Pitch 1.27mm, IPC Medium Density)
footprint TI-FK20_L (Leadless Chip Carrier, 20-Leads, Body 8.9x8.9mm, Pitch 1.27mm, IPC High Density)
footprint TI-FK20_M (Leadless Chip Carrier, 20-Leads, Body 8.9x8.9mm, Pitch 1.27mm, IPC Low Density)
part A pins: 2 OUT1 (out), 5 IN1- (in), 7 IN1+ (in)
part B pins: 12 IN2+ (in), 15 IN2- (in), 17 OUT2 (out)
part C pins: 1 NC, 3 NC, 4 NC, 6 NC, 8 NC, 9 NC, 10 VDD-/GND (power), 11 NC, 13 NC, 14 NC, 16 NC, 18 NC, 19 NC, 20 VDD+ (power)

## 5962-9753701QPA
designator U?
Advanced LinEPIC Self-Calibrating Precision Dual Operational Amplifier, 4 to 6 V, -55 to 125 degC, 8-pin DIP (JG8); Manufacturer: Texas Instruments; PartNumber: 5962-9753701QPA; CMRR(Min)(dB): 90; IIB(Max)(pA): 60; Iq per channel(Max)(mA): 3.5; Number of Channels: 2; Offset Drift(Typ)(uV/C): 1; Slew Rate(Typ)(V/us): 2.5; Sub Family: Low Offset Voltage Amplifier (<=500uV), Precision Amplifier; Total Supply Voltage(Max)(+5V is 5, +/-5V is 10): 6; Total Supply Voltage(Min)(+5V is 5, +/-5V is 10): 4; Vio (25C)(Max)(mV): 0.1; Vn at 1kHz(Typ)(nV/rtHz): 12; DatasheetVersion: SLOS221B; PackageVersion: 4040107/C, 08/1996; PackageReference: JG8; PackageDescription: 8-Pin Ceramic, Glass In-Line, Body 9.58 x 6.665 mm, Pitch 2.54 mm; Mounting Technology: Through Hole; ComponentLink1Description: Manufacturer URL; ComponentLink1URL: http://www.ti.com/; ComponentLink2Description: Datasheet; ComponentLink2URL: http://www.ti.com/general/docs/lit/getliterature.tsp?genericPartNumber=TLC4502M&fileType=pdf; ComponentLink3Description: Package Specification; ComponentLink3URL: http://www.ti.com/litv/pdf/mcer001a
footprint TI-JG8 (DIP, 8-Leads, Body 10.15x7.1mm, Pitch 2.54mm)
pins on every part: 4 VDD-/GND (power), 8 VDD+ (power)
part A pins: 1 OUT1 (out), 2 IN1- (in), 3 IN1+ (in)
part B pins: 5 IN2+ (in), 6 IN2- (in), 7 OUT2 (out)

## 5962-9753702Q2A
designator U?
Advanced, Self-Calibrating, Precision, Dual Operational Amplifier, 4 to 6 V, -55 to 125 degC, 20-pin LCC (FK20); Manufacturer: Texas Instruments; PartNumber: 5962-9753702Q2A; CMRR(Min)(dB): 90; IIB(Max)(pA): 60; Iq per channel(Max)(mA): 3.5; Number of Channels: 2; Offset Drift(Typ)(uV/C): 1; Slew Rate(Typ)(V/us): 2.5; Sub Family: Low Offset Voltage Amplifier (<=500uV), Precision Amplifier; Total Supply Voltage(Max)(+5V is 5, +/-5V is 10): 6; Total Supply Voltage(Min)(+5V is 5, +/-5V is 10): 4; Vio (25C)(Max)(mV): 0.05; Vn at 1kHz(Typ)(nV/rtHz): 12; DatasheetVersion: SLOS221B; PackageVersion: 4040140/D, 01/2011; PackageReference: FK20; PackageDescription: 20-Pin Ceramic, Metal Chip Carrier, Body 8.89 x 8.89 mm, Pitch 1.27 mm; Mounting Technology: Surface Mount; Code_JEDEC: MS-004; ComponentLink1Description: Manufacturer URL; ComponentLink1URL: http://www.ti.com/; ComponentLink2Description: Datasheet; ComponentLink2URL: http://www.ti.com/general/docs/lit/getliterature.tsp?genericPartNumber=TLC4502AM&fileType=pdf; ComponentLink3Description: Package Specification; ComponentLink3URL: http://www.ti.com/litv/pdf/mlcc006d
footprint TI-FK20_N (Leadless Chip Carrier, 20-Leads, Body 8.9x8.9mm, Pitch 1.27mm, IPC Medium Density)
footprint TI-FK20_L (Leadless Chip Carrier, 20-Leads, Body 8.9x8.9mm, Pitch 1.27mm, IPC High Density)
footprint TI-FK20_M (Leadless Chip Carrier, 20-Leads, Body 8.9x8.9mm, Pitch 1.27mm, IPC Low Density)
part A pins: 2 OUT1 (out), 5 IN1- (in), 7 IN1+ (in)
part B pins: 12 IN2+ (in), 15 IN2- (in), 17 OUT2 (out)
part C pins: 1 NC, 3 NC, 4 NC, 6 NC, 8 NC, 9 NC, 10 VDD-/GND (power), 11 NC, 13 NC, 14 NC, 16 NC, 18 NC, 19 NC, 20 VDD+ (power)

## 5962-9753702QPA
designator U?
Advanced, Self-Calibrating, Precision, Dual Operational Amplifier, 4 to 6 V, -55 to 125 degC, 8-pin DIP (JG8); Manufacturer: Texas Instruments; PartNumber: 5962-9753702QPA; CMRR(Min)(dB): 90; IIB(Max)(pA): 60; Iq per channel(Max)(mA): 3.5; Number of Channels: 2; Offset Drift(Typ)(uV/C): 1; Slew Rate(Typ)(V/us): 2.5; Sub Family: Low Offset Voltage Amplifier (<=500uV), Precision Amplifier; Total Supply Voltage(Max)(+5V is 5, +/-5V is 10): 6; Total Supply Voltage(Min)(+5V is 5, +/-5V is 10): 4; Vio (25C)(Max)(mV): 0.05; Vn at 1kHz(Typ)(nV/rtHz): 12; DatasheetVersion: SLOS221B; PackageVersion: 4040107/C, 08/1996; PackageReference: JG8; PackageDescription: 8-Pin Ceramic, Glass In-Line, Body 9.58 x 6.665 mm, Pitch 2.54 mm; Mounting Technology: Through Hole; ComponentLink1Description: Manufacturer URL; ComponentLink1URL: http://www.ti.com/; ComponentLink2Description: Datasheet; ComponentLink2URL: http://www.ti.com/general/docs/lit/getliterature.tsp?genericPartNumber=TLC4502AM&fileType=pdf; ComponentLink3Description: Package Specification; ComponentLink3URL: http://www.ti.com/litv/pdf/mcer001a
footprint TI-JG8 (DIP, 8-Leads, Body 10.15x7.1mm, Pitch 2.54mm)
pins on every part: 4 VDD-/GND (power), 8 VDD+ (power)
part A pins: 1 OUT1 (out), 2 IN1- (in), 3 IN1+ (in)
part B pins: 5 IN2+ (in), 6 IN2- (in), 7 OUT2 (out)

## 5962-9858802Q2A
designator U?
Dual High-Slew-Rate Rail-to-Rail Output Operational Amplifier, 2.5 to 6 V, -55 to 125 degC, 20-pin LCC (FK20); Manufacturer: Texas Instruments; PartNumber: 5962-9858802Q2A; CMRR(Min)(dB): 60; Iq per channel(Max)(mA): 2; Slew Rate(Typ)(V/us): 9; Sub Family: Low Supply Voltage Amplifier (<=2.7V), Precision Amplifier; Total Supply Voltage(Max)(+5V is 5, +/-5V is 10): 6; Total Supply Voltage(Min)(+5V is 5, +/-5V is 10): 2.5; Vio (25C)(Max)(mV): 1.6; Vn at 1kHz(Typ)(nV/rtHz): 21; DatasheetVersion: SLOS209G; PackageVersion: 4040140/D, 01/2011; PackageReference: FK20; PackageDescription: 20-Pin Ceramic, Metal Chip Carrier, Body 8.89 x 8.89 mm, Pitch 1.27 mm; IIB(Max)(pA): 60; Number of Channels: 2; Offset Drift(Typ)(uV/C): 2; Mounting Technology: Surface Mount; Code_JEDEC: MS-004; ComponentLink1Description: Manufacturer URL; ComponentLink1URL: http://www.ti.com/; ComponentLink2Description: Datasheet; ComponentLink2URL: http://www.ti.com/general/docs/lit/getliterature.tsp?genericPartNumber=TLV2772AM&fileType=pdf; ComponentLink3Description: Package Specification; ComponentLink3URL: http://www.ti.com/litv/pdf/mlcc006d
footprint TI-FK20_N (Leadless Chip Carrier, 20-Leads, Body 8.9x8.9mm, Pitch 1.27mm, IPC Medium Density)
footprint TI-FK20_L (Leadless Chip Carrier, 20-Leads, Body 8.9x8.9mm, Pitch 1.27mm, IPC High Density)
footprint TI-FK20_M (Leadless Chip Carrier, 20-Leads, Body 8.9x8.9mm, Pitch 1.27mm, IPC Low Density)
part A pins: 2 OUT1 (out), 5 IN1- (in), 7 IN1+ (in)
part B pins: 12 IN2+ (in), 15 IN2- (in), 17 OUT2 (out)
part C pins: 1 NC, 3 NC, 4 NC, 6 NC, 8 NC, 9 NC, 10 GND (power), 11 NC, 13 NC, 14 NC, 16 NC, 18 NC, 19 NC, 20 VDD+ (power)

## 5962-9858802QPA
designator U?
Dual High-Slew-Rate Rail-to-Rail Output Operational Amplifier, 2.5 to 6 V, -55 to 125 degC, 8-pin DIP (JG8); Manufacturer: Texas Instruments; PartNumber: 5962-9858802QPA; CMRR(Min)(dB): 60; Iq per channel(Max)(mA): 2; Slew Rate(Typ)(V/us): 9; Sub Family: Low Supply Voltage Amplifier (<=2.7V), Precision Amplifier; Total Supply Voltage(Max)(+5V is 5, +/-5V is 10): 6; Total Supply Voltage(Min)(+5V is 5, +/-5V is 10): 2.5; Vio (25C)(Max)(mV): 1.6; Vn at 1kHz(Typ)(nV/rtHz): 21; DatasheetVersion: SLOS209G; PackageVersion: 4040107/C, 08/1996; PackageReference: JG8; PackageDescription: 8-Pin Ceramic, Glass In-Line, Body 9.58 x 6.665 mm, Pitch 2.54 mm; IIB(Max)(pA): 60; Number of Channels: 2; Offset Drift(Typ)(uV/C): 2; Mounting Technology: Through Hole; ComponentLink1Description: Manufacturer URL; ComponentLink1URL: http://www.ti.com/; ComponentLink2Description: Datasheet; ComponentLink2URL: http://www.ti.com/general/docs/lit/getliterature.tsp?genericPartNumber=TLV2772AM&fileType=pdf; ComponentLink3Description: Package Specification; ComponentLink3URL: http://www.ti.com/litv/pdf/mcer001a
footprint TI-JG8 (DIP, 8-Leads, Body 10.15x7.1mm, Pitch 2.54mm)
pins on every part: 4 GND (power), 8 VDD (power)
part A pins: 1 OUT1 (out), 2 IN1- (in), 3 IN1+ (in)
part B pins: 5 IN2+ (in), 6 IN2- (in), 7 OUT2 (out)

## ACF2101BU
designator U?
Low Noise, Dual Switched Integrator, 14.5 to 36 V, -40 to 125 degC, 24-pin SOIC (DW24), Green (RoHS & no Sb/Br); Manufacturer: Texas Instruments; PartNumber: ACF2101BU; GBW(Typ)(MHz): 2; Iq per channel(Max)(mA): 15; Offset Drift(Typ)(uV/C): 1; Packing: TUBE; Rating: Catalog; Slew Rate(Typ)(V/us): 3; Sub Family: Precision Amplifier; Total Supply Voltage(Max)(+5V is 5, +/-5V is 10): 36; Total Supply Voltage(Min)(+5V is 5, +/-5V is 10): 14.5; DatasheetVersion: SBFS003; PackageVersion: 4040000-5/G, 01/2011; PackageReference: DW24; PackageDescription: 24-Pin Plastic Small Outline, Body 15.4 x 7.5 mm, Pitch 1.27 mm; Supplier 1: Digi-Key; Supplier Part Number 1: ACF2101BU-ND; Supplier 2: Newark; Supplier Part Number 2: 35C1421; Supplier 3: Mouser; Supplier Part Number 3: 595-ACF2101BU; Eco-Plan: Green (RoHS & no Sb/Br); Number of Channels: 2; Vio (25C)(Max)(mV): 2; Mounting Technology: Surface Mount; Code_JEDEC: MS-013; ComponentLink1Description: Manufacturer URL; ComponentLink1URL: http://www.ti.com/; ComponentLink2Description: Datasheet; ComponentLink2URL: http://www.ti.com/lit/ds/symlink/acf2101.pdf; ComponentLink3Description: Package Specification; ComponentLink3URL: http://www.ti.com/litv/pdf/mpds174a
footprint TI-DW24_N (SOIC, 24-Leads, Body 15.4x7.5mm, Pitch 1.27mm, IPC Medium Density)
footprint TI-DW24_L (SOIC, 24-Leads, Body 15.4x7.5mm, Pitch 1.27mm, IPC High Density)
footprint TI-DW24_M (SOIC, 24-Leads, Body 15.4x7.5mm, Pitch 1.27mm, IPC Low Density)
pins: 1 SW IN B "B Switch-In", 2 IN B (in) "B In", 3 CAP B "B  Cap", 4 COM B (in) "B Common", 5 GND B (power) "B Ground", 6 OUT B (out) "B Out", 7 SW OUT B "B Switch-Out", 8 SW COM B "B Switch-Common", 9 SELECT B (in) "B Select", 10 RESET B (in) "B Reset", 11 HOLD B (in) "B Hold", 12 V- (power), 13 V+ (power), 14 HOLD A (in) "A Hold", 15 RESET A (in) "A Reset", 16 SELECT A (in) "A Select", 17 SW COM A "A Switch-Common", 18 SW OUT A "A Switch-Out", 19 OUT A (out) "A  Out", 20 GND A (power) "A Ground", 21 COM A (in) "A Common", 22 CAP A "A  Cap", 23 IN A (in) "A In", 24 SW IN A "A Switch-In"